# EAGLE library part XEF232 (library xmosxl 2)
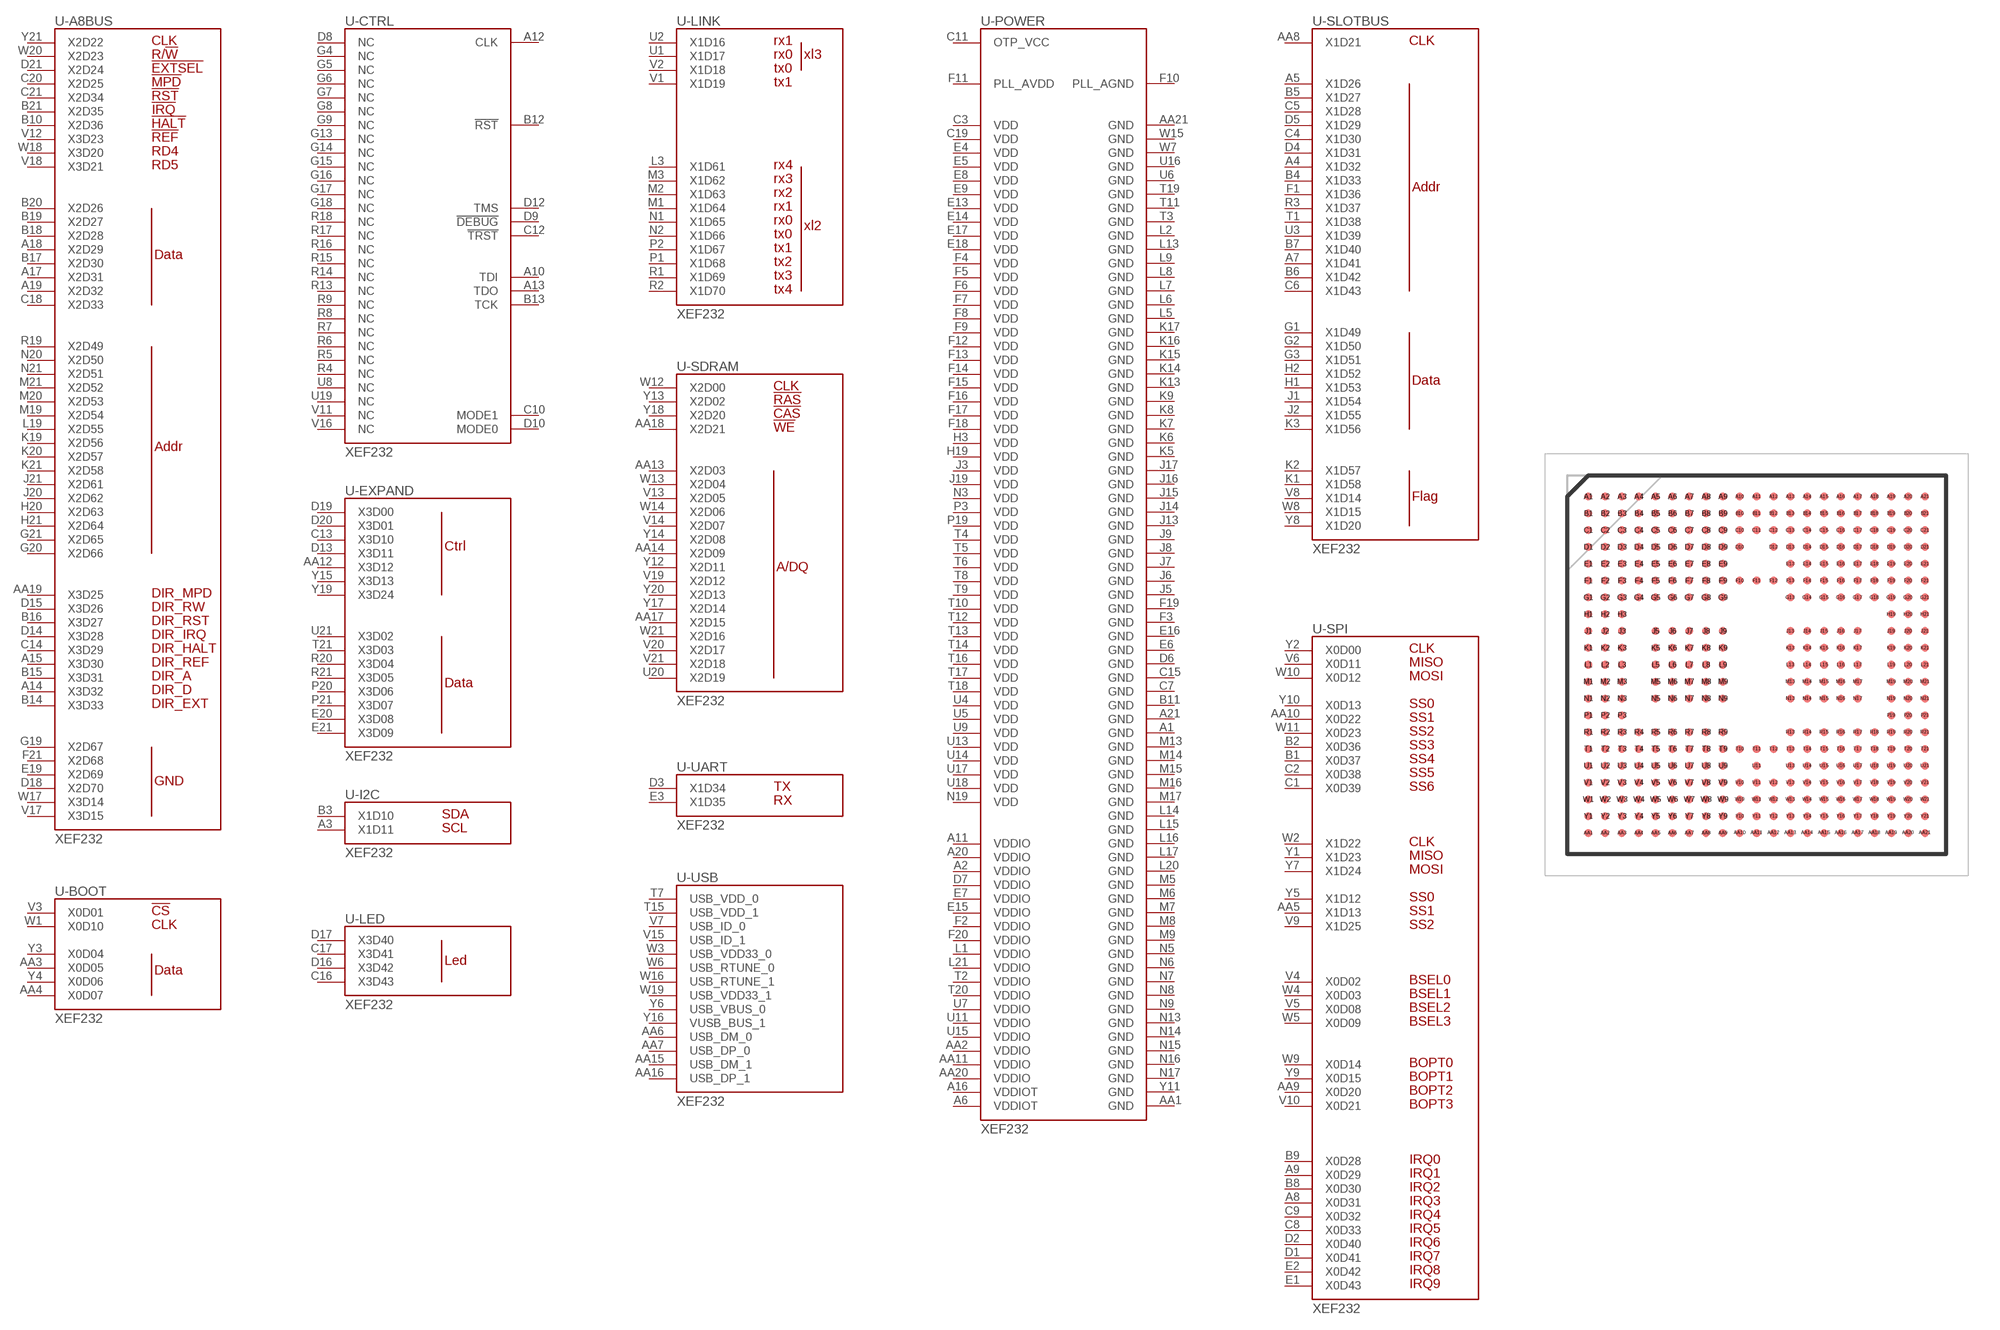
[diagram p0: symbol with the pads of BGA374C80P21X21_1800X1800X136; footprint BGA374C80P21X21_1800X1800X136]

Designator prefix -; gates -A8BUS=XEF232-A8 -BOOT=XEF232-BOOT -CTRL=XEF232-CTRL -EXPAND=XEF232-EXPAND -I2C=XEF232-I2C -LED=XEF232-LED -LINK=XEF232-LINK -POWER=XEF232-POWER -SDRAM=XEF232-SDRAM -SLOTBUS=XEF232-SLOT -SPI=XEF232-SPI -UART=XEF232-UART -USB=XEF232-USB

## XEF232  [BGA374C80P21X21_1800X1800X136]
A1  -POWER:GND
A2  -POWER:VDDIO
A3  -I2C:X1D11
A4  -SLOTBUS:X1D32
A5  -SLOTBUS:X1D26
A6  -POWER:VDDIOT
A7  -SLOTBUS:X1D41
A8  -SPI:X0D31
A9  -SPI:X0D29
A10  -CTRL:TDI
A11  -POWER:VDDIO
A12  -CTRL:CLK
A13  -CTRL:TDO
A14  -A8BUS:X3D32
A15  -A8BUS:X3D30
A16  -POWER:VDDIOT
A17  -A8BUS:X2D31
A18  -A8BUS:X2D29
A19  -A8BUS:X2D32
A20  -POWER:VDDIO
A21  -POWER:GND
AA1  -POWER:GND
AA2  -POWER:VDDIO
AA3  -BOOT:X0D05
AA4  -BOOT:X0D07
AA5  -SPI:X1D13
AA6  -USB:USB_DM_0
AA7  -USB:USB_DP_0
AA8  -SLOTBUS:X1D21
AA9  -SPI:X0D20
AA10  -SPI:X0D22
AA11  -POWER:VDDIO
AA12  -EXPAND:X3D12
AA13  -SDRAM:X2D03
AA14  -SDRAM:X2D09
AA15  -USB:USB_DM_1
AA16  -USB:USB_DP_1
AA17  -SDRAM:X2D15
AA18  -SDRAM:X2D21
AA19  -A8BUS:X3D25
AA20  -POWER:VDDIO
AA21  -POWER:GND
B1  -SPI:X0D37
B2  -SPI:X0D36
B3  -I2C:X1D10
B4  -SLOTBUS:X1D33
B5  -SLOTBUS:X1D27
B6  -SLOTBUS:X1D42
B7  -SLOTBUS:X1D40
B8  -SPI:X0D30
B9  -SPI:X0D28
B10  -A8BUS:X2D36
B11  -POWER:GND
B12  -CTRL:!RST!
B13  -CTRL:TCK
B14  -A8BUS:X3D33
B15  -A8BUS:X3D31
B16  -A8BUS:X3D27
B17  -A8BUS:X2D30
B18  -A8BUS:X2D28
B19  -A8BUS:X2D27
B20  -A8BUS:X2D26
B21  -A8BUS:X2D35
C1  -SPI:X0D39
C2  -SPI:X0D38
C3  -POWER:VDD
C4  -SLOTBUS:X1D30
C5  -SLOTBUS:X1D28
C6  -SLOTBUS:X1D43
C7  -POWER:GND
C8  -SPI:X0D33
C9  -SPI:X0D32
C10  -CTRL:MODE1
C11  -POWER:OTP_VCC
C12  -CTRL:!TRST!
C13  -EXPAND:X3D10
C14  -A8BUS:X3D29
C15  -POWER:GND
C16  -LED:X3D43
C17  -LED:X3D41
C18  -A8BUS:X2D33
C19  -POWER:VDD
C20  -A8BUS:X2D25
C21  -A8BUS:X2D34
D1  -SPI:X0D41
D2  -SPI:X0D40
D3  -UART:X1D34
D4  -SLOTBUS:X1D31
D5  -SLOTBUS:X1D29
D6  -POWER:GND
D7  -POWER:VDDIO
D8  -CTRL:NC
D9  -CTRL:!DEBUG!
D10  -CTRL:MODE0
D12  -CTRL:TMS
D13  -EXPAND:X3D11
D14  -A8BUS:X3D28
D15  -A8BUS:X3D26
D16  -LED:X3D42
D17  -LED:X3D40
D18  -A8BUS:X2D70
D19  -EXPAND:X3D00
D20  -EXPAND:X3D01
D21  -A8BUS:X2D24
E1  -SPI:X0D43
E2  -SPI:X0D42
E3  -UART:X1D35
E4  -POWER:VDD
E5  -POWER:VDD
E6  -POWER:GND
E7  -POWER:VDDIO
E8  -POWER:VDD
E9  -POWER:VDD
E13  -POWER:VDD
E14  -POWER:VDD
E15  -POWER:VDDIO
E16  -POWER:GND
E17  -POWER:VDD
E18  -POWER:VDD
E19  -A8BUS:X2D69
E20  -EXPAND:X3D08
E21  -EXPAND:X3D09
F1  -SLOTBUS:X1D36
F2  -POWER:VDDIO
F3  -POWER:GND
F4  -POWER:VDD
F5  -POWER:VDD
F6  -POWER:VDD
F7  -POWER:VDD
F8  -POWER:VDD
F9  -POWER:VDD
F10  -POWER:PLL_AGND
F11  -POWER:PLL_AVDD
F12  -POWER:VDD
F13  -POWER:VDD
F14  -POWER:VDD
F15  -POWER:VDD
F16  -POWER:VDD
F17  -POWER:VDD
F18  -POWER:VDD
F19  -POWER:GND
F20  -POWER:VDDIO
F21  -A8BUS:X2D68
G1  -SLOTBUS:X1D49
G2  -SLOTBUS:X1D50
G3  -SLOTBUS:X1D51
G4  -CTRL:NC
G5  -CTRL:NC
G6  -CTRL:NC
G7  -CTRL:NC
G8  -CTRL:NC
G9  -CTRL:NC
G13  -CTRL:NC
G14  -CTRL:NC
G15  -CTRL:NC
G16  -CTRL:NC
G17  -CTRL:NC
G18  -CTRL:NC
G19  -A8BUS:X2D67
G20  -A8BUS:X2D66
G21  -A8BUS:X2D65
H1  -SLOTBUS:X1D53
H2  -SLOTBUS:X1D52
H3  -POWER:VDD
H19  -POWER:VDD
H20  -A8BUS:X2D63
H21  -A8BUS:X2D64
J1  -SLOTBUS:X1D54
J2  -SLOTBUS:X1D55
J3  -POWER:VDD
J5  -POWER:GND
J6  -POWER:GND
J7  -POWER:GND
J8  -POWER:GND
J9  -POWER:GND
J13  -POWER:GND
J14  -POWER:GND
J15  -POWER:GND
J16  -POWER:GND
J17  -POWER:GND
J19  -POWER:VDD
J20  -A8BUS:X2D62
J21  -A8BUS:X2D61
K1  -SLOTBUS:X1D58
K2  -SLOTBUS:X1D57
K3  -SLOTBUS:X1D56
K5  -POWER:GND
K6  -POWER:GND
K7  -POWER:GND
K8  -POWER:GND
K9  -POWER:GND
K13  -POWER:GND
K14  -POWER:GND
K15  -POWER:GND
K16  -POWER:GND
K17  -POWER:GND
K19  -A8BUS:X2D56
K20  -A8BUS:X2D57
K21  -A8BUS:X2D58
L1  -POWER:VDDIO
L2  -POWER:GND
L3  -LINK:X1D61
L5  -POWER:GND
L6  -POWER:GND
L7  -POWER:GND
L8  -POWER:GND
L9  -POWER:GND
L13  -POWER:GND
L14  -POWER:GND
L15  -POWER:GND
L16  -POWER:GND
L17  -POWER:GND
L19  -A8BUS:X2D55
L20  -POWER:GND
L21  -POWER:VDDIO
M1  -LINK:X1D64
M2  -LINK:X1D63
M3  -LINK:X1D62
M5  -POWER:GND
M6  -POWER:GND
M7  -POWER:GND
M8  -POWER:GND
M9  -POWER:GND
M13  -POWER:GND
M14  -POWER:GND
M15  -POWER:GND
M16  -POWER:GND
M17  -POWER:GND
M19  -A8BUS:X2D54
M20  -A8BUS:X2D53
M21  -A8BUS:X2D52
N1  -LINK:X1D65
N2  -LINK:X1D66
N3  -POWER:VDD
N5  -POWER:GND
N6  -POWER:GND
N7  -POWER:GND
N8  -POWER:GND
N9  -POWER:GND
N13  -POWER:GND
N14  -POWER:GND
N15  -POWER:GND
N16  -POWER:GND
N17  -POWER:GND
N19  -POWER:VDD
N20  -A8BUS:X2D50
N21  -A8BUS:X2D51
P1  -LINK:X1D68
P2  -LINK:X1D67
P3  -POWER:VDD
P19  -POWER:VDD
P20  -EXPAND:X3D06
P21  -EXPAND:X3D07
R1  -LINK:X1D69
R2  -LINK:X1D70
R3  -SLOTBUS:X1D37
R4  -CTRL:NC
R5  -CTRL:NC
R6  -CTRL:NC
R7  -CTRL:NC
R8  -CTRL:NC
R9  -CTRL:NC
R13  -CTRL:NC
R14  -CTRL:NC
R15  -CTRL:NC
R16  -CTRL:NC
R17  -CTRL:NC
R18  -CTRL:NC
R19  -A8BUS:X2D49
R20  -EXPAND:X3D04
R21  -EXPAND:X3D05
T1  -SLOTBUS:X1D38
T2  -POWER:VDDIO
T3  -POWER:GND
T4  -POWER:VDD
T5  -POWER:VDD
T6  -POWER:VDD
T7  -USB:USB_VDD_0
T8  -POWER:VDD
T9  -POWER:VDD
T10  -POWER:VDD
T11  -POWER:GND
T12  -POWER:VDD
T13  -POWER:VDD
T14  -POWER:VDD
T15  -USB:USB_VDD_1
T16  -POWER:VDD
T17  -POWER:VDD
T18  -POWER:VDD
T19  -POWER:GND
T20  -POWER:VDDIO
T21  -EXPAND:X3D03
U1  -LINK:X1D17
U2  -LINK:X1D16
U3  -SLOTBUS:X1D39
U4  -POWER:VDD
U5  -POWER:VDD
U6  -POWER:GND
U7  -POWER:VDDIO
U8  -CTRL:NC
U9  -POWER:VDD
U11  -POWER:VDDIO
U13  -POWER:VDD
U14  -POWER:VDD
U15  -POWER:VDDIO
U16  -POWER:GND
U17  -POWER:VDD
U18  -POWER:VDD
U19  -CTRL:NC
U20  -SDRAM:X2D19
U21  -EXPAND:X3D02
V1  -LINK:X1D19
V2  -LINK:X1D18
V3  -BOOT:X0D01
V4  -SPI:X0D02
V5  -SPI:X0D08
V6  -SPI:X0D11
V7  -USB:USB_ID_0
V8  -SLOTBUS:X1D14
V9  -SPI:X1D25
V10  -SPI:X0D21
V11  -CTRL:NC
V12  -A8BUS:X3D23
V13  -SDRAM:X2D05
V14  -SDRAM:X2D07
V15  -USB:USB_ID_1
V16  -CTRL:NC
V17  -A8BUS:X3D15
V18  -A8BUS:X3D21
V19  -SDRAM:X2D12
V20  -SDRAM:X2D17
V21  -SDRAM:X2D18
W1  -BOOT:X0D10
W2  -SPI:X1D22
W3  -USB:USB_VDD33_0
W4  -SPI:X0D03
W5  -SPI:X0D09
W6  -USB:USB_RTUNE_0
W7  -POWER:GND
W8  -SLOTBUS:X1D15
W9  -SPI:X0D14
W10  -SPI:X0D12
W11  -SPI:X0D23
W12  -SDRAM:X2D00
W13  -SDRAM:X2D04
W14  -SDRAM:X2D06
W15  -POWER:GND
W16  -USB:USB_RTUNE_1
W17  -A8BUS:X3D14
W18  -A8BUS:X3D20
W19  -USB:USB_VDD33_1
W20  -A8BUS:X2D23
W21  -SDRAM:X2D16
Y1  -SPI:X1D23
Y2  -SPI:X0D00
Y3  -BOOT:X0D04
Y4  -BOOT:X0D06
Y5  -SPI:X1D12
Y6  -USB:USB_VBUS_0
Y7  -SPI:X1D24
Y8  -SLOTBUS:X1D20
Y9  -SPI:X0D15
Y10  -SPI:X0D13
Y11  -POWER:GND
Y12  -SDRAM:X2D11
Y13  -SDRAM:X2D02
Y14  -SDRAM:X2D08
Y15  -EXPAND:X3D13
Y16  -USB:VUSB_BUS_1
Y17  -SDRAM:X2D14
Y18  -SDRAM:X2D20
Y19  -EXPAND:X3D24
Y20  -SDRAM:X2D13
Y21  -A8BUS:X2D22

## Footprint BGA374C80P21X21_1800X1800X136 (pad centres in mm)
XEF232-1024-FB374-C40
smd 0.37 x 0.37: A1 -8,8; A2 -7.2,8; A3 -6.4,8; A4 -5.6,8; A5 -4.8,8; A6 -4,8; A7 -3.2,8; A8 -2.4,8; A9 -1.6,8; A10 -0.8,8; A11 0,8; A12 0.8,8; A13 1.6,8; A14 2.4,8; A15 3.2,8; A16 4,8; A17 4.8,8; A18 5.6,8; A19 6.4,8; A20 7.2,8; A21 8,8; AA1 -8,-8; AA2 -7.2,-8; AA3 -6.4,-8; AA4 -5.6,-8; AA5 -4.8,-8; AA6 -4,-8; AA7 -3.2,-8; AA8 -2.4,-8; AA9 -1.6,-8; AA10 -0.8,-8; AA11 0,-8; AA12 0.8,-8; AA13 1.6,-8; AA14 2.4,-8; AA15 3.2,-8; AA16 4,-8; AA17 4.8,-8; AA18 5.6,-8; AA19 6.4,-8; AA20 7.2,-8; AA21 8,-8; B1 -8,7.2; B2 -7.2,7.2; B3 -6.4,7.2; B4 -5.6,7.2; B5 -4.8,7.2; B6 -4,7.2; B7 -3.2,7.2; B8 -2.4,7.2; B9 -1.6,7.2; B10 -0.8,7.2; B11 0,7.2; B12 0.8,7.2; B13 1.6,7.2; B14 2.4,7.2; B15 3.2,7.2; B16 4,7.2; B17 4.8,7.2; B18 5.6,7.2; B19 6.4,7.2; B20 7.2,7.2; B21 8,7.2; C1 -8,6.4; C2 -7.2,6.4; C3 -6.4,6.4; C4 -5.6,6.4; C5 -4.8,6.4; C6 -4,6.4; C7 -3.2,6.4; C8 -2.4,6.4; C9 -1.6,6.4; C10 -0.8,6.4; C11 0,6.4; C12 0.8,6.4; C13 1.6,6.4; C14 2.4,6.4; C15 3.2,6.4; C16 4,6.4; C17 4.8,6.4; C18 5.6,6.4; C19 6.4,6.4; C20 7.2,6.4; C21 8,6.4; D1 -8,5.6; D2 -7.2,5.6; D3 -6.4,5.6; D4 -5.6,5.6; D5 -4.8,5.6; D6 -4,5.6; D7 -3.2,5.6; D8 -2.4,5.6; D9 -1.6,5.6; D10 -0.8,5.6; D12 0.8,5.6; D13 1.6,5.6; D14 2.4,5.6; D15 3.2,5.6; D16 4,5.6; D17 4.8,5.6; D18 5.6,5.6; D19 6.4,5.6; D20 7.2,5.6; D21 8,5.6; E1 -8,4.8; E2 -7.2,4.8; E3 -6.4,4.8; E4 -5.6,4.8; E5 -4.8,4.8; E6 -4,4.8; E7 -3.2,4.8; E8 -2.4,4.8; E9 -1.6,4.8; E13 1.6,4.8; E14 2.4,4.8; E15 3.2,4.8; E16 4,4.8; E17 4.8,4.8; E18 5.6,4.8; E19 6.4,4.8; E20 7.2,4.8; E21 8,4.8; F1 -8,4; F2 -7.2,4; F3 -6.4,4; F4 -5.6,4; F5 -4.8,4; F6 -4,4; F7 -3.2,4; F8 -2.4,4; F9 -1.6,4; F10 -0.8,4; F11 0,4; F12 0.8,4; F13 1.6,4; F14 2.4,4; F15 3.2,4; F16 4,4; F17 4.8,4; F18 5.6,4; F19 6.4,4; F20 7.2,4; F21 8,4; G1 -8,3.2; G2 -7.2,3.2; G3 -6.4,3.2; G4 -5.6,3.2; G5 -4.8,3.2; G6 -4,3.2; G7 -3.2,3.2; G8 -2.4,3.2; G9 -1.6,3.2; G13 1.6,3.2; G14 2.4,3.2; G15 3.2,3.2; G16 4,3.2; G17 4.8,3.2; G18 5.6,3.2; G19 6.4,3.2; G20 7.2,3.2; G21 8,3.2; H1 -8,2.4; H2 -7.2,2.4; H3 -6.4,2.4; H19 6.4,2.4; H20 7.2,2.4; H21 8,2.4; J1 -8,1.6; J2 -7.2,1.6; J3 -6.4,1.6; J5 -4.8,1.6; J6 -4,1.6; J7 -3.2,1.6; J8 -2.4,1.6; J9 -1.6,1.6; J13 1.6,1.6; J14 2.4,1.6; J15 3.2,1.6; J16 4,1.6; J17 4.8,1.6; J19 6.4,1.6; J20 7.2,1.6; J21 8,1.6; K1 -8,0.8; K2 -7.2,0.8; K3 -6.4,0.8; K5 -4.8,0.8; K6 -4,0.8; K7 -3.2,0.8; K8 -2.4,0.8; K9 -1.6,0.8; K13 1.6,0.8; K14 2.4,0.8; K15 3.2,0.8; K16 4,0.8; K17 4.8,0.8; K19 6.4,0.8; K20 7.2,0.8; K21 8,0.8; L1 -8,0; L2 -7.2,0; L3 -6.4,0; L5 -4.8,0; L6 -4,0; L7 -3.2,0; L8 -2.4,0; L9 -1.6,0; L13 1.6,0; L14 2.4,0; L15 3.2,0; L16 4,0; L17 4.8,0; L19 6.4,0; L20 7.2,0; L21 8,0; M1 -8,-0.8; M2 -7.2,-0.8; M3 -6.4,-0.8; M5 -4.8,-0.8; M6 -4,-0.8; M7 -3.2,-0.8; M8 -2.4,-0.8; M9 -1.6,-0.8; M13 1.6,-0.8; M14 2.4,-0.8; M15 3.2,-0.8; M16 4,-0.8; M17 4.8,-0.8; M19 6.4,-0.8; M20 7.2,-0.8; M21 8,-0.8; N1 -8,-1.6; N2 -7.2,-1.6; N3 -6.4,-1.6; N5 -4.8,-1.6; N6 -4,-1.6; N7 -3.2,-1.6; N8 -2.4,-1.6; N9 -1.6,-1.6; N13 1.6,-1.6; N14 2.4,-1.6; N15 3.2,-1.6; N16 4,-1.6; N17 4.8,-1.6; N19 6.4,-1.6; N20 7.2,-1.6; N21 8,-1.6; P1 -8,-2.4; P2 -7.2,-2.4; P3 -6.4,-2.4; P19 6.4,-2.4; P20 7.2,-2.4; P21 8,-2.4; R1 -8,-3.2; R2 -7.2,-3.2; R3 -6.4,-3.2; R4 -5.6,-3.2; R5 -4.8,-3.2; R6 -4,-3.2; R7 -3.2,-3.2; R8 -2.4,-3.2; R9 -1.6,-3.2; R13 1.6,-3.2; R14 2.4,-3.2; R15 3.2,-3.2; R16 4,-3.2; R17 4.8,-3.2; R18 5.6,-3.2; R19 6.4,-3.2; R20 7.2,-3.2; R21 8,-3.2; T1 -8,-4; T2 -7.2,-4; T3 -6.4,-4; T4 -5.6,-4; T5 -4.8,-4; T6 -4,-4; T7 -3.2,-4; T8 -2.4,-4; T9 -1.6,-4; T10 -0.8,-4; T11 0,-4; T12 0.8,-4; T13 1.6,-4; T14 2.4,-4; T15 3.2,-4; T16 4,-4; T17 4.8,-4; T18 5.6,-4; T19 6.4,-4; T20 7.2,-4; T21 8,-4; U1 -8,-4.8; U2 -7.2,-4.8; U3 -6.4,-4.8; U4 -5.6,-4.8; U5 -4.8,-4.8; U6 -4,-4.8; U7 -3.2,-4.8; U8 -2.4,-4.8; U9 -1.6,-4.8; U11 0,-4.8; U13 1.6,-4.8; U14 2.4,-4.8; U15 3.2,-4.8; U16 4,-4.8; U17 4.8,-4.8; U18 5.6,-4.8; U19 6.4,-4.8; U20 7.2,-4.8; U21 8,-4.8; V1 -8,-5.6; V2 -7.2,-5.6; V3 -6.4,-5.6; V4 -5.6,-5.6; V5 -4.8,-5.6; V6 -4,-5.6; V7 -3.2,-5.6; V8 -2.4,-5.6; V9 -1.6,-5.6; V10 -0.8,-5.6; V11 0,-5.6; V12 0.8,-5.6; V13 1.6,-5.6; V14 2.4,-5.6; V15 3.2,-5.6; V16 4,-5.6; V17 4.8,-5.6; V18 5.6,-5.6; V19 6.4,-5.6; V20 7.2,-5.6; V21 8,-5.6; W1 -8,-6.4; W2 -7.2,-6.4; W3 -6.4,-6.4; W4 -5.6,-6.4; W5 -4.8,-6.4; W6 -4,-6.4; W7 -3.2,-6.4; W8 -2.4,-6.4; W9 -1.6,-6.4; W10 -0.8,-6.4; W11 0,-6.4; W12 0.8,-6.4; W13 1.6,-6.4; W14 2.4,-6.4; W15 3.2,-6.4; W16 4,-6.4; W17 4.8,-6.4; W18 5.6,-6.4; W19 6.4,-6.4; W20 7.2,-6.4; W21 8,-6.4; Y1 -8,-7.2; Y2 -7.2,-7.2; Y3 -6.4,-7.2; Y4 -5.6,-7.2; Y5 -4.8,-7.2; Y6 -4,-7.2; Y7 -3.2,-7.2; Y8 -2.4,-7.2; Y9 -1.6,-7.2; Y10 -0.8,-7.2; Y11 0,-7.2; Y12 0.8,-7.2; Y13 1.6,-7.2; Y14 2.4,-7.2; Y15 3.2,-7.2; Y16 4,-7.2; Y17 4.8,-7.2; Y18 5.6,-7.2; Y19 6.4,-7.2; Y20 7.2,-7.2; Y21 8,-7.2